# EAGLE library part SPBT2632C2A (library glasses)
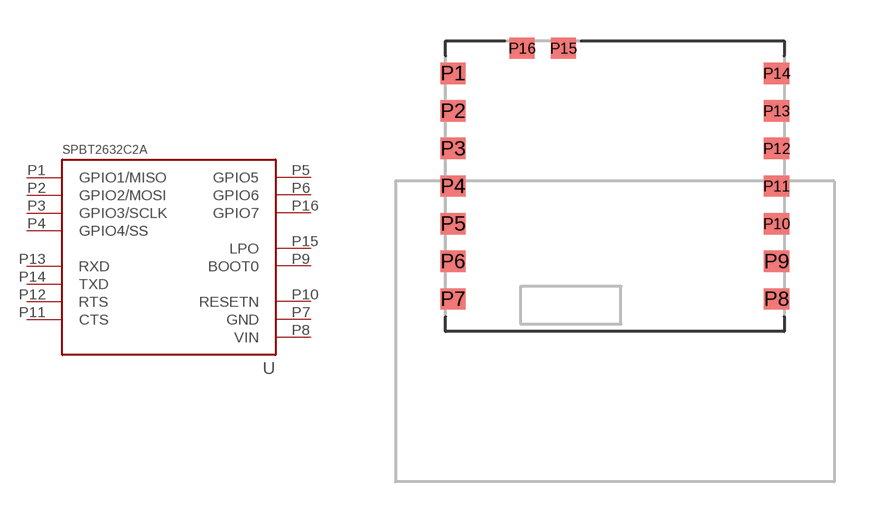
[diagram p0: symbol with the pads of SPBT2632C2A_16PIN_SMD; footprint SPBT2632C2A_16PIN_SMD]

Designator prefix -

## SPBT2632C2A  [SPBT2632C2A_16PIN_SMD]
P1  GPIO1/MISO
P2  GPIO2/MOSI
P3  GPIO3/SCLK
P4  GPIO4/SS
P5  GPIO5
P6  GPIO6
P7  GND
P8  VIN
P9  BOOT0
P10  RESETN
P11  CTS
P12  RTS
P13  RXD
P14  TXD
P15  LPO
P16  GPIO7

## Footprint SPBT2632C2A_16PIN_SMD (pad centres in mm)
smd 1 x 0.85: P1 -6.45,-1.3; P2 -6.45,-2.8; P3 -6.45,-4.3; P4 -6.45,-5.8; P5 -6.45,-7.3; P6 -6.45,-8.8; P7 -6.45,-10.3; P8 6.45,-10.3; P9 6.45,-8.8; P10 6.45,-7.3; P11 6.45,-5.8; P12 6.45,-4.3; P13 6.45,-2.8; P14 6.45,-1.3; P15 -2.05,-0.3; P16 -3.7,-0.3